# Altium schematic symbol library 2.2 - STM8 AF系列单片机.SchLib: 5 symbols
Pins are listed as number, name and electrical type; pins without a type are passive.

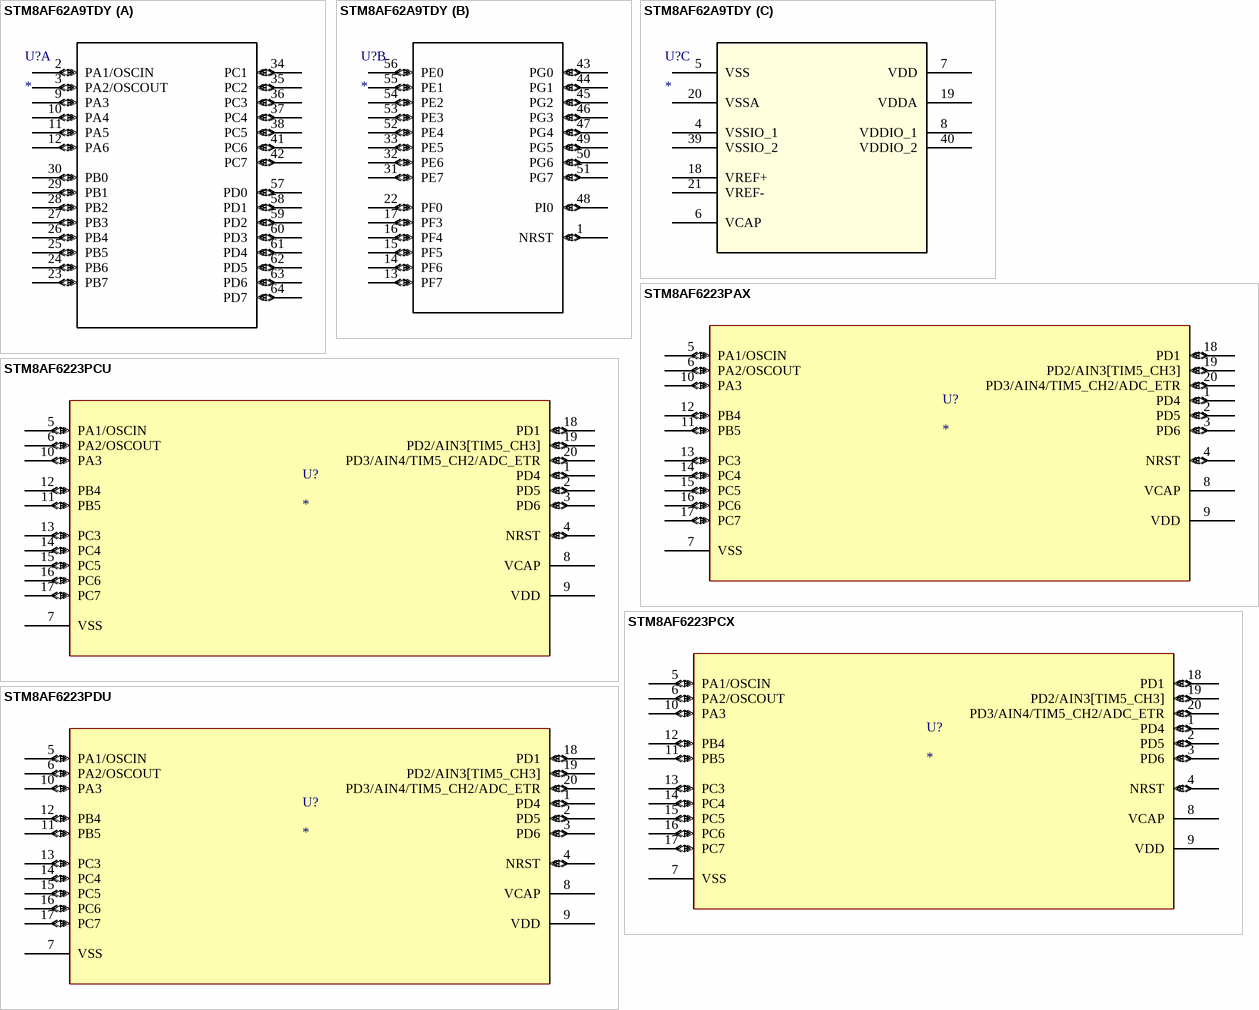
[diagram p0: symbols STM8AF62A9TDY to STM8AF6223PDU]

## STM8AF62A9TDY
designator U?
封装库来自淘宝卖家 ID：黄晶宝石: 其他店铺购入均为盗版假冒封装库; 联系卖家 免费查找封装: 唯一出售店铺网址https://shop463601444.taobao.com
footprint LQFP64_N (封装库来自淘宝 ID：黄晶宝石 Thin QFP, 64-Leads, Body 10x10mm, Pitch 0.5mm, IPC Medium Density)
part A pins: 2 PA1/OSCIN (io), 3 PA2/OSCOUT (io), 9 PA3 (io), 10 PA4 (io), 11 PA5 (io), 12 PA6 (io), 23 PB7 (io), 24 PB6 (io), 25 PB5 (io), 26 PB4 (io), 27 PB3 (io), 28 PB2 (io), 29 PB1 (io), 30 PB0 (io), 34 PC1 (io), 35 PC2 (io), 36 PC3 (io), 37 PC4 (io), 38 PC5 (io), 41 PC6 (io), 42 PC7 (io), 57 PD0 (io), 58 PD1 (io), 59 PD2 (io), 60 PD3 (io), 61 PD4 (io), 62 PD5 (io), 63 PD6 (io), 64 PD7 (io)
part B pins: 1 NRST (io), 13 PF7 (io), 14 PF6 (io), 15 PF5 (io), 16 PF4 (io), 17 PF3 (io), 22 PF0 (io), 31 PE7 (io), 32 PE6 (io), 33 PE5 (io), 43 PG0 (io), 44 PG1 (io), 45 PG2 (io), 46 PG3 (io), 47 PG4 (io), 48 PI0 (io), 49 PG5 (io), 50 PG6 (io), 51 PG7 (io), 52 PE4 (io), 53 PE3 (io), 54 PE2 (io), 55 PE1 (io), 56 PE0 (io)
part C pins: 4 VSSIO_1 (power), 5 VSS (power), 6 VCAP (power), 7 VDD (power), 8 VDDIO_1 (power), 18 VREF+ (power), 19 VDDA (power), 20 VSSA (power), 21 VREF- (power), 39 VSSIO_2 (power), 40 VDDIO_2 (power)

## STM8AF6223PAX
designator U?
封装库来自淘宝卖家 ID：黄晶宝石: 其他店铺购入均为盗版假冒封装库; 联系卖家 免费查找封装: 唯一出售店铺网址https://shop463601444.taobao.com
footprint TSSOP20_N (TSOP, 20-Leads, Body 6.5x4.4mm, Pitch 0.65mm, IPC Medium Density)
pins: 1 PD4 (io), 2 PD5 (io), 3 PD6 (io), 4 NRST (io), 5 PA1/OSCIN (io), 6 PA2/OSCOUT (io), 7 VSS (power), 8 VCAP (power), 9 VDD (power), 10 PA3 (io), 11 PB5 (io), 12 PB4 (io), 13 PC3 (io), 14 PC4 (io), 15 PC5 (io), 16 PC6 (io), 17 PC7 (io), 18 PD1 (io), 19 PD2/AIN3[TIM5_CH3] (io), 20 PD3/AIN4/TIM5_CH2/ADC_ETR (io)

## STM8AF6223PCU
designator U?
封装库来自淘宝卖家 ID：黄晶宝石: 其他店铺购入均为盗版假冒封装库; 联系卖家 免费查找封装: 唯一出售店铺网址https://shop463601444.taobao.com
footprint TSSOP20_N (TSOP, 20-Leads, Body 6.5x4.4mm, Pitch 0.65mm, IPC Medium Density)
pins: 1 PD4 (io), 2 PD5 (io), 3 PD6 (io), 4 NRST (io), 5 PA1/OSCIN (io), 6 PA2/OSCOUT (io), 7 VSS (power), 8 VCAP (power), 9 VDD (power), 10 PA3 (io), 11 PB5 (io), 12 PB4 (io), 13 PC3 (io), 14 PC4 (io), 15 PC5 (io), 16 PC6 (io), 17 PC7 (io), 18 PD1 (io), 19 PD2/AIN3[TIM5_CH3] (io), 20 PD3/AIN4/TIM5_CH2/ADC_ETR (io)

## STM8AF6223PCX
designator U?
封装库来自淘宝卖家 ID：黄晶宝石: 其他店铺购入均为盗版假冒封装库; 联系卖家 免费查找封装: 唯一出售店铺网址https://shop463601444.taobao.com
footprint TSSOP20_N (TSOP, 20-Leads, Body 6.5x4.4mm, Pitch 0.65mm, IPC Medium Density)
pins: 1 PD4 (io), 2 PD5 (io), 3 PD6 (io), 4 NRST (io), 5 PA1/OSCIN (io), 6 PA2/OSCOUT (io), 7 VSS (power), 8 VCAP (power), 9 VDD (power), 10 PA3 (io), 11 PB5 (io), 12 PB4 (io), 13 PC3 (io), 14 PC4 (io), 15 PC5 (io), 16 PC6 (io), 17 PC7 (io), 18 PD1 (io), 19 PD2/AIN3[TIM5_CH3] (io), 20 PD3/AIN4/TIM5_CH2/ADC_ETR (io)

## STM8AF6223PDU
designator U?
封装库来自淘宝卖家 ID：黄晶宝石: 其他店铺购入均为盗版假冒封装库; 联系卖家 免费查找封装: 唯一出售店铺网址https://shop463601444.taobao.com
footprint TSSOP20_N (TSOP, 20-Leads, Body 6.5x4.4mm, Pitch 0.65mm, IPC Medium Density)
pins: 1 PD4 (io), 2 PD5 (io), 3 PD6 (io), 4 NRST (io), 5 PA1/OSCIN (io), 6 PA2/OSCOUT (io), 7 VSS (power), 8 VCAP (power), 9 VDD (power), 10 PA3 (io), 11 PB5 (io), 12 PB4 (io), 13 PC3 (io), 14 PC4 (io), 15 PC5 (io), 16 PC6 (io), 17 PC7 (io), 18 PD1 (io), 19 PD2/AIN3[TIM5_CH3] (io), 20 PD3/AIN4/TIM5_CH2/ADC_ETR (io)